# EAGLE library part BALUN (library iBionics)
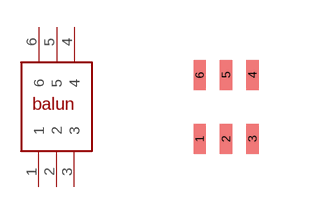
[diagram p3: symbol with the pads of BALUN; footprint BALUN]

Designator prefix -

## BALUN  [BALUN]
1  1
2  2
3  3
4  4
5  5
6  6

## Footprint BALUN (pad centres in mm)
smd 0.305 x 0.762: 1 -0.66,-0.813; 2 0,-0.813; 3 0.66,-0.813; 4 0.66,0.787; 5 0,0.787; 6 -0.66,0.787